# Altium schematic symbol library КР293КП4А.Schlib: 1 symbol
Pins are listed as number, name and electrical type; pins without a type are passive.

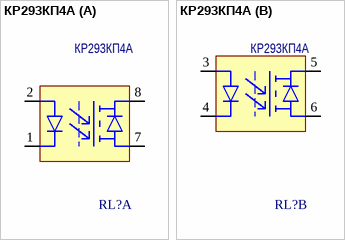
[diagram p0: symbol КР293КП4А]

## КР293КП4А
designator RL?, comment Наименование: КР293КП4А  (hidden comment: KR293KP4A)
Сдвоенное однонаправленное МОП-реле с низким сопротивлением / 60В/2.5Ом; Потребление, Вт: 0,001; Назначение: Сдвоенное однонаправленное МОП-реле с низким сопротивлением; ComponentLink1Description: DataSheet; ComponentLink1URL: https://static.chipdip.ru/lib/242/DOC000242149.pdf
footprint DIP-8
part A pins: 1, 2, 7, 8
part B pins: 3, 4, 5, 6